# Altium schematic symbol library 1101M2S3CQE2.SchLib: 1 symbol
Pins are listed as number, name and electrical type; pins without a type are passive.

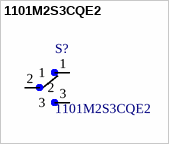
[diagram p0: symbol 1101M2S3CQE2]

## 1101M2S3CQE2
designator S?
Slide Switch SPDT Through Hole; MF: C&K; Package: None; Digi-Key_Purchase_URL: https://www.digikey.com/product-detail/en/c-k/1101M2S3CQE2/CKN5001-ND/67042?utm_source=snapeda&utm_medium=aggregator&utm_campaign=symbol; MP: 1101M2S3CQE2; SnapEDA_Link: https://www.snapeda.com/parts/1101M2S3CQE2/C%26K/view-part/287375/?ref=snap; Digi-Key_Part_Number: CKN5001-ND; Value: *
footprint *SW_1101M2S3CQE2
pins: 1, 2, 3